# EAGLE library part MAX14591ETAT (library MAX14591ETAT)
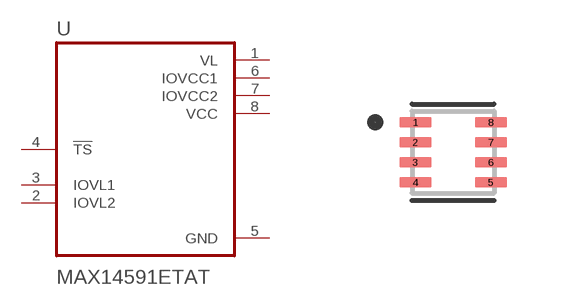
[diagram p0: symbol with the pads of SON50P200X200X80-8N; footprint SON50P200X200X80-8N]

Designator prefix U

## MAX14591ETAT (Description: Voltage Level Translator Bidirectional 1 Circuit 2 Channel 16Mbps 8-TDFN (2x2); Digi-Key_Part_Number: MAX14591ETA+TCT-ND; MF: Maxim Integrated; MP: MAX14591ETA+T; Package: TDFN-8 Maxim; Purchase-URL: https://pricing.snapeda.com/search/part/MAX14591ETA+T/?ref=eda)  [SON50P200X200X80-8N]
1  VL  pwr
2  IOVL2
3  IOVL1
4  !TS
5  GND  pwr
6  IOVCC1  pwr
7  IOVCC2  pwr
8  VCC  pwr

## Footprint SON50P200X200X80-8N (pad centres in mm)
smd 0.81 x 0.27: 1 -0.945,0.75; 2 -0.945,0.25; 3 -0.945,-0.25; 4 -0.945,-0.75; 5 0.945,-0.75; 6 0.945,-0.25; 7 0.945,0.25; 8 0.945,0.75